# Altium integrated library Big_Library_Connectors_XT.IntLib: 4 symbols
Pins are listed as number, name and electrical type; pins without a type are passive.

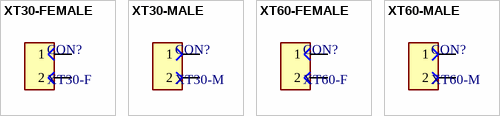
[diagram p0: symbols XT30-FEMALE to XT60-MALE]

## XT30-FEMALE
designator CON?, comment XT30-F
XT30 CONNECTORS FEMALE; Current Rating: 30; Current Surge: 15; Voltage: 500V; Pitch: 5mm; ComponentLink1Description: Link; Mounting: Vertical; Pin Type: Female
footprint XT30-F-VERTICAL (XT30 Female Connector)
pins: 1, 2

## XT30-MALE
designator CON?, comment XT30-M
XT30 CONNECTORS MALE; Current Rating: 30; Current Surge: 15; Voltage: 500V; Pitch: 5mm; ComponentLink1Description: Link; Mounting: Vertical; Pin Type: Male
footprint XT30-M-VERTICAL (XT30 Male Connector)
pins: 1, 2

## XT60-FEMALE
designator CON?, comment XT60-F
XT60 CONNECTORS FEMALE; Current Rating: 60; Current Surge: 30; Voltage: 500V; Pitch: 7.2mm; ComponentLink1Description: Link; Mounting: Vertical; Pin Type: Female
footprint XT60-F-VERTICAL
pins: 1, 2

## XT60-MALE
designator CON?, comment XT60-M
XT60 CONNECTORS MALE; Current Rating: 60; Current Surge: 30; Voltage: 500V; Pitch: 7.2mm; ComponentLink1Description: Link; Mounting: Vertical; Pin Type: Male
footprint XT60-M-VERTICAL
pins: 1, 2